# EAGLE library part LPC1343 (library untitled)
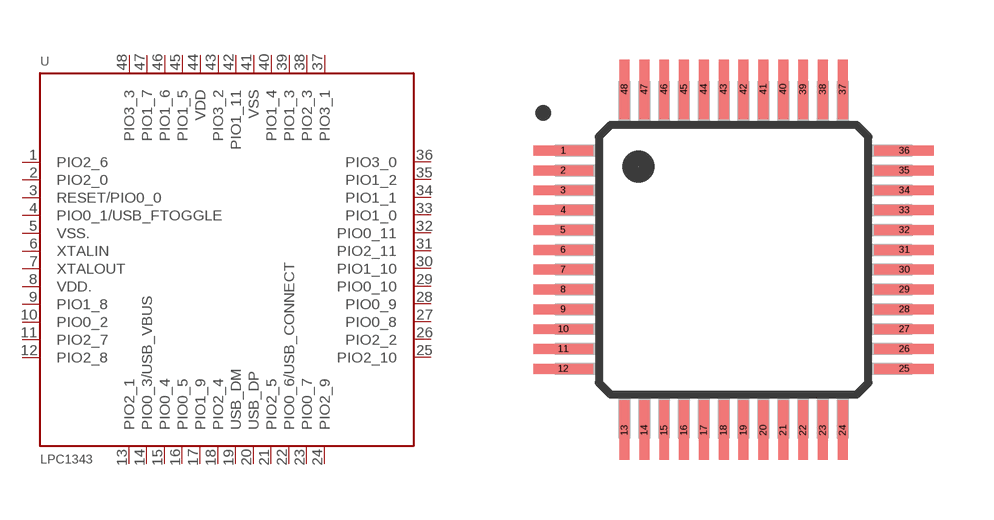
[diagram p34: symbol with the pads of LQFP48; footprint LQFP48]

Designator prefix U

## LPC1343FBD48  [LQFP48]
1  PIO2_6
2  PIO2_0
3  RESET/PIO0_0
4  PIO0_1/USB_FTOGGLE
5  VSS.  pwr
6  XTALIN  in
7  XTALOUT  out
8  VDD.  pwr
9  PIO1_8
10  PIO0_2
11  PIO2_7
12  PIO2_8
13  PIO2_1
14  PIO0_3/USB_VBUS
15  PIO0_4
16  PIO0_5
17  PIO1_9
18  PIO2_4
19  USB_DM
20  USB_DP
21  PIO2_5
22  PIO0_6/USB_CONNECT
23  PIO0_7
24  PIO2_9
25  PIO2_10
26  PIO2_2
27  PIO0_8
28  PIO0_9
29  PIO0_10
30  PIO1_10
31  PIO2_11
32  PIO0_11
33  PIO1_0
34  PIO1_1
35  PIO1_2
36  PIO3_0
37  PIO3_1
38  PIO2_3
39  PIO1_3
40  PIO1_4
41  VSS  pwr
42  PIO1_11
43  PIO3_2
44  VDD  pwr
45  PIO1_5
46  PIO1_6
47  PIO1_7
48  PIO3_3

## Footprint LQFP48 (pad centres in mm)
smd 1.5 x 0.25: 1 -4.3,2.75; 2 -4.3,2.25; 3 -4.3,1.75; 4 -4.3,1.25; 5 -4.3,0.75; 6 -4.3,0.25; 7 -4.3,-0.25; 8 -4.3,-0.75; 9 -4.3,-1.25; 10 -4.3,-1.75; 11 -4.3,-2.25; 12 -4.3,-2.75; 25 4.3,-2.75; 26 4.3,-2.25; 27 4.3,-1.75; 28 4.3,-1.25; 29 4.3,-0.75; 30 4.3,-0.25; 31 4.3,0.25; 32 4.3,0.75; 33 4.3,1.25; 34 4.3,1.75; 35 4.3,2.25; 36 4.3,2.75
smd 0.25 x 1.5: 13 -2.75,-4.3; 14 -2.25,-4.3; 15 -1.75,-4.3; 16 -1.25,-4.3; 17 -0.75,-4.3; 18 -0.25,-4.3; 19 0.25,-4.3; 20 0.75,-4.3; 21 1.25,-4.3; 22 1.75,-4.3; 23 2.25,-4.3; 24 2.75,-4.3; 37 2.75,4.3; 38 2.25,4.3; 39 1.75,4.3; 40 1.25,4.3; 41 0.75,4.3; 42 0.25,4.3; 43 -0.25,4.3; 44 -0.75,4.3; 45 -1.25,4.3; 46 -1.75,4.3; 47 -2.25,4.3; 48 -2.75,4.3